# Altium footprint library Fancy.PcbLib: 119 footprints (part 5 of 8)
Each footprint in its own frame and in the unit in brackets; x right, y up, seen from the top. Pads: shape width x height; smd on the part's side, far side on the other; paste and mask are expansions set on the pad; w line width, h text height; cw(c..) or ccw(c..) is an arc to the next point about the centre after c.
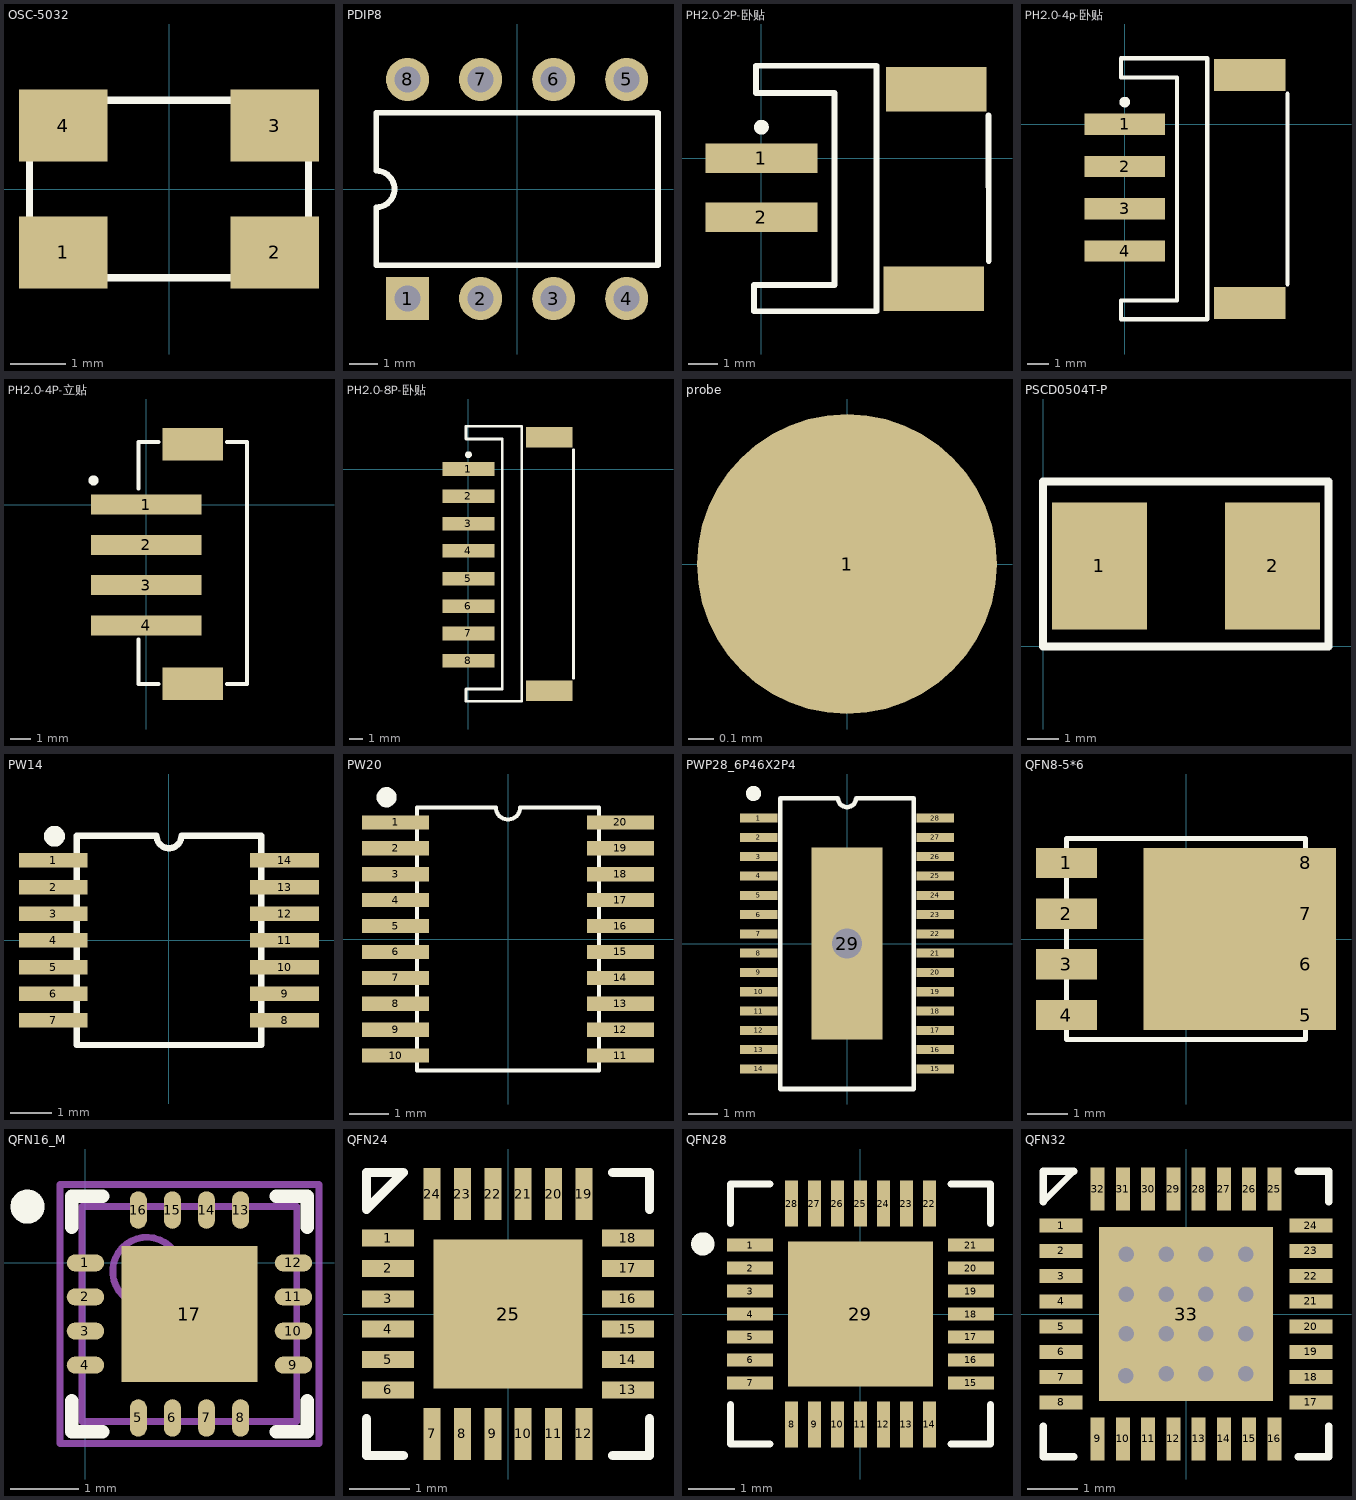
[diagram p4: the footprints below, top view; thin cyan lines are the x and y axes]

## OSC-5032 [mm]
pads (4):
  rect 1.6x1.3 smd: 1(-1.905,-1.143) 2(1.905,-1.143) 3(1.905,1.143) 4(-1.905,1.143)
Top Overlay:
  lines w0.127: -2.515,-1.6 0,-1.6 2.515,-1.6 2.515,0 2.515,1.6 0,1.6 -2.515,1.6 -2.515,0 -2.515,-1.6

## PDIP8 [mm] "DIP; 8 Leads; Row Spacing 7.62 mm; Pitch 2.54 mm"
height 5.08
pads (8):
  rect 1.5x1.5 hole 0.9: 1(-3.81,-3.81)
  round 1.5 hole 0.9: 2(-1.27,-3.81) 3(1.27,-3.81) 4(3.81,-3.81) 5(3.81,3.81) 6(1.27,3.81) 7(-1.27,3.81) 8(-3.81,3.81)
Top Overlay:
  lines w0.2: -4.9,-2.65 -4.9,-0.635 ccw(c-4.9,0) -4.9,0.635 -4.9,2.65 4.9,2.65 4.9,-2.65 -4.9,-2.65

## PH2.0-2P-卧贴 [mm]
pads (4):
  rect 3.8x1 smd: 1(0,0) 2(0,-2)
  rect 3.4x1.5 smd: ""(5.841,-4.422) ""(5.917,2.334)
Top Overlay:
  circle w0.25: c0,1.05 r0.125
  lines w0.2: 2.524,-5.184 3.9,-5.184 3.9,3.127 2.642,3.127 ; 2.539,-5.184 -0.255,-5.184 -0.255,-4.295 2.473,-4.295 2.473,2.207 -0.179,2.207 -0.179,3.127 2.6,3.127 ; 7.695,1.445 7.696,-3.48

## PH2.0-4p-卧贴 [mm]
pads (6):
  rect 3.8x1 smd: 1(0,0) 2(0,-2) 3(0,-4) 4(0,-6)
  rect 3.4x1.5 smd: ""(5.917,-8.461) ""(5.917,2.334)
Top Overlay:
  circle w0.25: c0,1.05 r0.125
  lines w0.2: 2.6,-9.223 3.9,-9.223 3.9,3.127 2.6,3.127 -0.179,3.127 -0.179,2.207 2.473,2.207 2.473,-8.334 -0.179,-8.334 -0.179,-9.223 2.615,-9.223 ; 7.695,-7.572 7.695,1.445

## PH2.0-4P-立贴 [mm]
pads (6):
  rect 5.5x1 smd: 1(0,0) 2(0,-2) 3(0,-4) 4(0,-6)
  rect 3x1.6 smd: ""(2.3,-8.9) ""(2.3,3)
Top Overlay:
  circle w0.25: c-2.625,1.2 r0.125
  lines w0.2: -0.4,-6.7 -0.4,-8.9 0.6,-8.9 ; -0.4,0.8 -0.4,3.1 0.6,3.1 ; 4,-8.9 5,-8.9 5,3.1 4,3.1

## PH2.0-8P-卧贴 [mm]
pads (10):
  rect 3.8x1 smd: 1(0,0) 2(0,-2) 3(0,-4) 4(0,-6) 5(0,-8.052) 6(0,-10.052) 7(0,-12.052) 8(0,-14.052)
  rect 3.4x1.5 smd: ""(5.917,2.334) ""(5.918,-16.256)
Top Overlay:
  circle w0.25: c0,1.05 r0.125
  lines w0.2: 2.6,-17.018 3.9,-17.018 3.9,3.127 2.6,3.127 -0.179,3.127 -0.179,2.207 2.473,2.207 2.473,-16.129 -0.179,-16.129 -0.179,-17.018 2.615,-17.018 ; 7.695,1.42 7.696,-15.342

## probe [mm]
pads (1):
  round 1.2 smd paste+0 mask+0.102: 1(0,0)

## PSCD0504T-P [mm]
pads (2):
  rect 3x4 smd: 1(1.778,2.54) 2(7.239,2.54)
Top Overlay:
  lines w0.254: 0,0 9,0 9,5.2 0,5.2 0,0

## PW14 [mil]
pads (14):
  rect 66x14 smd: 1(-111,76.77) 2(-111,51.18) 3(-111,25.59) 4(-111,0) 5(-111,-25.59) 6(-111,-51.18) 7(-111,-76.77) 8(111,-76.77) 9(111,-51.18) 10(111,-25.59) 11(111,0) 12(111,25.59) 13(111,51.18) 14(111,76.77)
Top Overlay:
  circle w10: c-110,100 r5
  lines w6: -88.5,-100.5 88.5,-100.5 88.5,100.5 12,100.5 cw(c0,100.5) -12,100.5 -88.5,100.5 -88.5,-100.5

## PW20 [mil]
pads (20):
  rect 66x14 smd: 1(-111,115.16) 2(-111,89.57) 3(-111,63.98) 4(-111,38.39) 5(-111,12.8) 6(-111,-12.8) 7(-111,-38.39) 8(-111,-63.98) 9(-111,-89.57) 10(-111,-115.16) 11(111,-115.16) 12(111,-89.57) 13(111,-63.98) 14(111,-38.39) 15(111,-12.8) 16(111,12.8) 17(111,38.39) 18(111,63.98) 19(111,89.57) 20(111,115.16)
Top Overlay:
  circle w10: c-120,140 r5
  lines w3.94: -12,130 -67.51,130 -90,130 -90,-130 -67.51,-130 90,-130 90,130 12,130
  lines w4: -12,130 ccw(c0,130) 12,130

## PWP28_6P46X2P4 [mil]
pads (29):
  rect 50x12 smd: 1(-117,166.34) 2(-117,140.75) 3(-117,115.16) 4(-117,89.57) 5(-117,63.98) 6(-117,38.39) 7(-117,12.8) 8(-117,-12.8) 9(-117,-38.39) 10(-117,-63.98) 11(-117,-89.57) 12(-117,-115.16) 13(-117,-140.75) 14(-117,-166.34) 15(117,-166.34) 16(117,-140.75) 17(117,-115.16) 18(117,-89.57) 19(117,-63.98) 20(117,-38.39) 21(117,-12.8) 22(117,12.8) 23(117,38.39) 24(117,63.98) 25(117,89.57) 26(117,115.16) 27(117,140.75) 28(117,166.34)
  rect 94.49x254.33 smd: 29(0,0)
via 0,0 diameter 60 hole 40
Top Overlay:
  circle w10: c-124,199 r5
  lines w6: -88.5,-192.91 -88.5,192.91 -12,192.91 ccw(c0,192.91) 12,192.91 88.5,192.91 88.5,-192.91 -88.5,-192.91

## QFN8-5*6 [mil]
pads (9):
  rect 60x30 smd: 1(-118,75) 2(-118,25) 3(-118,-25) 4(-118,-75) 5(118,-75) 6(118,-25) 7(118,25) 8(118,75)
  rect 190x180 smd: ""(53,0)
Top Overlay:
  lines w5: -118,-99 -118,0 -118,99 0,99 118,99 118,0 118,-99 0,-99 -118,-99

## QFN16_M [mm]
pads (17):
  oval 0.55x0.25 smd: 1(0,0) 2(0,-0.5) 3(0,-1) 4(0,-1.5) 9(3.05,-1.5) 10(3.05,-1) 11(3.05,-0.5) 12(3.05,0)
  oval 0.25x0.55 smd: 5(0.775,-2.275) 6(1.275,-2.275) 7(1.775,-2.275) 8(2.275,-2.275) 13(2.275,0.775) 14(1.775,0.775) 15(1.275,0.775) 16(0.775,0.775)
  rect 2x2 smd: 17(1.525,-0.75)
Top Overlay:
  circle w0.25: c-0.85,0.825 r0.125
  lines w0.2: -0.2,-2.025 -0.2,-2.475 0.25,-2.475 ; -0.2,0.525 -0.2,0.975 0.25,0.975 ; 2.8,-2.475 3.25,-2.475 3.25,-2.025 ; 2.8,0.975 3.25,0.975 3.25,0.525
Mechanical 13:
  circle w0.1: c0.9,-0.125 r0.5
  lines w0.1: -0.05,-2.325 -0.05,0.825 3.1,0.825 3.1,-2.325 -0.05,-2.325
Mechanical 15:
  lines w0.1: 1.025,-0.75 2.025,-0.75 ; 1.525,-1.25 1.525,-0.25 ; -0.375,-2.65 -0.375,1.15 3.425,1.15 3.425,-2.65 -0.375,-2.65
3D body: height 0.9, standoff 0, extent -0.05,-2.325 3.1,0.825

## QFN24 [mm]
pads (25):
  rect 0.85x0.28 smd paste-0.14: 1(-1.975,1.25) 2(-1.975,0.75) 3(-1.975,0.25) 4(-1.975,-0.25) 5(-1.975,-0.75) 6(-1.975,-1.25) 13(1.975,-1.25) 14(1.975,-0.75) 15(1.975,-0.25) 16(1.975,0.25) 17(1.975,0.75) 18(1.975,1.25)
  rect 0.28x0.85 smd paste-0.14: 7(-1.25,-1.975) 8(-0.75,-1.975) 9(-0.25,-1.975) 10(0.25,-1.975) 11(0.75,-1.975) 12(1.25,-1.975) 19(1.25,1.975) 20(0.75,1.975) 21(0.25,1.975) 22(-0.25,1.975) 23(-0.75,1.975) 24(-1.25,1.975)
  rect 2.45x2.45 smd paste-1.212 mask-1.206: 25(0,0)
Top Overlay:
  lines w0.152: -2.329,-1.723 -2.329,-2.329 -1.723,-2.329 ; 1.723,-2.329 2.329,-2.329 2.329,-1.723 ; 1.723,2.329 2.329,2.329 2.329,1.723 ; -1.723,2.329 -2.329,2.329 -2.329,1.723 -1.723,2.329 ; -1.723,2.329 -1.723,2.329
Top Paste:
  drawing of 40 lines, arcs and shapes, not listed
Top Solder:
  region: -1.48,1.46 -2.47,1.46 -2.47,1.04 -1.48,1.04
  region: -1.48,0.96 -2.47,0.96 -2.47,0.54 -1.48,0.54
  region: -1.48,0.46 -2.47,0.46 -2.47,0.04 -1.48,0.04
  region: -1.48,-0.04 -2.47,-0.04 -2.47,-0.46 -1.48,-0.46
  region: -1.48,-0.54 -2.47,-0.54 -2.47,-0.96 -1.48,-0.96
  region: -1.48,-1.04 -2.47,-1.04 -2.47,-1.46 -1.48,-1.46
  region: -1.041,-1.48 -1.46,-1.48 -1.46,-2.47 -1.041,-2.47
  region: -0.541,-1.48 -0.96,-1.48 -0.96,-2.47 -0.541,-2.47
  region: -0.04,-1.48 -0.46,-1.48 -0.46,-2.47 -0.04,-2.47
  region: 0.46,-1.48 0.04,-1.48 0.04,-2.47 0.46,-2.47
  region: 0.96,-1.48 0.541,-1.48 0.541,-2.47 0.96,-2.47
  region: 1.46,-1.48 1.041,-1.48 1.041,-2.47 1.46,-2.47
  region: 2.47,-1.04 1.48,-1.04 1.48,-1.46 2.47,-1.46
  region: 2.47,-0.54 1.48,-0.54 1.48,-0.96 2.47,-0.96
  region: 2.47,-0.04 1.48,-0.04 1.48,-0.46 2.47,-0.46
  region: 2.47,0.46 1.48,0.46 1.48,0.04 2.47,0.04
  region: 2.47,0.96 1.48,0.96 1.48,0.54 2.47,0.54
  region: 2.47,1.46 1.48,1.46 1.48,1.04 2.47,1.04
  region: 1.46,2.47 1.041,2.47 1.041,1.48 1.46,1.48
  region: 0.96,2.47 0.541,2.47 0.541,1.48 0.96,1.48
  region: 0.46,2.47 0.04,2.47 0.04,1.48 0.46,1.48
  region: -0.04,2.47 -0.46,2.47 -0.46,1.48 -0.04,1.48
  region: -0.541,2.47 -0.96,2.47 -0.96,1.48 -0.541,1.48
  region: -1.041,2.47 -1.46,2.47 -1.46,1.48 -1.041,1.48
  region: -1.289,0.987 -1.289,1.289 1.289,1.289 1.289,0.987
  region: -1.289,0.2 -1.289,0.587 1.289,0.587 1.289,0.2
  region: -1.289,-0.587 -1.289,-0.2 1.289,-0.2 1.289,-0.587
  region: -1.289,-1.289 -1.289,-0.987 1.289,-0.987 1.289,-1.289
  region: -1.289,-1.289 -1.289,1.289 -0.987,1.289 -0.987,-1.289
  region: -0.2,-1.289 -0.2,1.289 -0.587,1.289 -0.587,-1.289
  region: 0.587,-1.289 0.587,1.289 0.2,1.289 0.2,-1.289
  region: 0.987,-1.289 0.987,1.289 1.289,1.289 1.289,-1.289

## QFN28 [mm]
pads (29):
  rect 1x0.28 smd paste-0.14: 1(-2.4,1.5) 2(-2.4,1) 3(-2.4,0.5) 4(-2.4,0) 5(-2.4,-0.5) 6(-2.4,-1) 7(-2.4,-1.5) 15(2.4,-1.5) 16(2.4,-1) 17(2.4,-0.5) 18(2.4,0) 19(2.4,0.5) 20(2.4,1) 21(2.4,1.5)
  rect 0.28x1 smd paste-0.14: 8(-1.5,-2.4) 9(-1,-2.4) 10(-0.5,-2.4) 11(0,-2.4) 12(0.5,-2.4) 13(1,-2.4) 14(1.5,-2.4) 22(1.5,2.4) 23(1,2.4) 24(0.5,2.4) 25(0,2.4) 26(-0.5,2.4) 27(-1,2.4) 28(-1.5,2.4)
  rect 3.15x3.15 smd paste-1.562 mask-1.562: 29(0,0)
Top Overlay:
  circle w0.254: c-3.429,1.524 r0.127
  lines w0.152: -2.829,-1.973 -2.829,-2.829 -1.973,-2.829 ; -2.829,1.973 -2.829,2.829 -1.973,2.829 ; 1.973,-2.829 2.829,-2.829 2.829,-1.973 ; 1.973,2.829 2.829,2.829 2.829,1.973
Top Paste:
  drawing of 53 lines, arcs and shapes, not listed
Top Solder:
  drawing of 38 lines, arcs and shapes, not listed

## QFN32 [mm]
pads (33):
  rect 0.85x0.28 smd paste-0.412: 1(-2.475,1.75) 2(-2.475,1.25) 3(-2.475,0.75) 4(-2.475,0.25) 5(-2.475,-0.25) 6(-2.475,-0.75) 7(-2.475,-1.25) 8(-2.475,-1.75) 17(2.475,-1.75) 18(2.475,-1.25) 19(2.475,-0.75) 20(2.475,-0.25) 21(2.475,0.25) 22(2.475,0.75) 23(2.475,1.25) 24(2.475,1.75)
  rect 0.28x0.85 smd paste-0.412: 9(-1.75,-2.475) 10(-1.25,-2.475) 11(-0.75,-2.475) 12(-0.25,-2.475) 13(0.25,-2.475) 14(0.75,-2.475) 15(1.25,-2.475) 16(1.75,-2.475) 25(1.75,2.475) 26(1.25,2.475) 27(0.75,2.475) 28(0.25,2.475) 29(-0.25,2.475) 30(-0.75,2.475) 31(-1.25,2.475) 32(-1.75,2.475)
  rect 3.45x3.45 smd paste-1.712 mask-1.714: 33(0,0)
via -1.194,-1.219 diameter 0.61 hole 0.305
via -0.394,-1.181 diameter 0.61 hole 0.305
via 0.394,-1.181 diameter 0.61 hole 0.305
via 1.181,-1.181 diameter 0.61 hole 0.305
via 1.181,-0.394 diameter 0.61 hole 0.305
via 0.394,-0.394 diameter 0.61 hole 0.305
via -0.394,-0.394 diameter 0.61 hole 0.305
via -1.181,-0.394 diameter 0.61 hole 0.305
via -1.181,0.394 diameter 0.61 hole 0.305
via -0.394,0.394 diameter 0.61 hole 0.305
via 0.394,0.394 diameter 0.61 hole 0.305
via 1.181,0.394 diameter 0.61 hole 0.305
via 1.181,1.181 diameter 0.61 hole 0.305
via 0.394,1.181 diameter 0.61 hole 0.305
via -0.394,1.181 diameter 0.61 hole 0.305
via -1.181,1.181 diameter 0.61 hole 0.305
Top Overlay:
  lines w0.127: -2.829,2.223 -2.223,2.829 -2.223,2.829
  lines w0.152: -2.829,-2.223 -2.829,-2.829 -2.223,-2.829 ; -2.829,2.223 -2.829,2.829 -2.223,2.829 ; 2.223,-2.829 2.829,-2.829 2.829,-2.223 ; 2.223,2.829 2.829,2.829 2.829,2.223
Top Paste:
  drawing of 57 lines, arcs and shapes, not listed
Top Solder:
  drawing of 42 lines, arcs and shapes, not listed